# Altium footprint library L1HX5070200000000.PcbLib: 1 footprints
Each footprint in its own frame and in the unit in brackets; x right, y up, seen from the top. Pads: shape width x height; smd on the part's side, far side on the other; paste and mask are expansions set on the pad; w line width, h text height; cw(c..) or ccw(c..) is an arc to the next point about the centre after c.
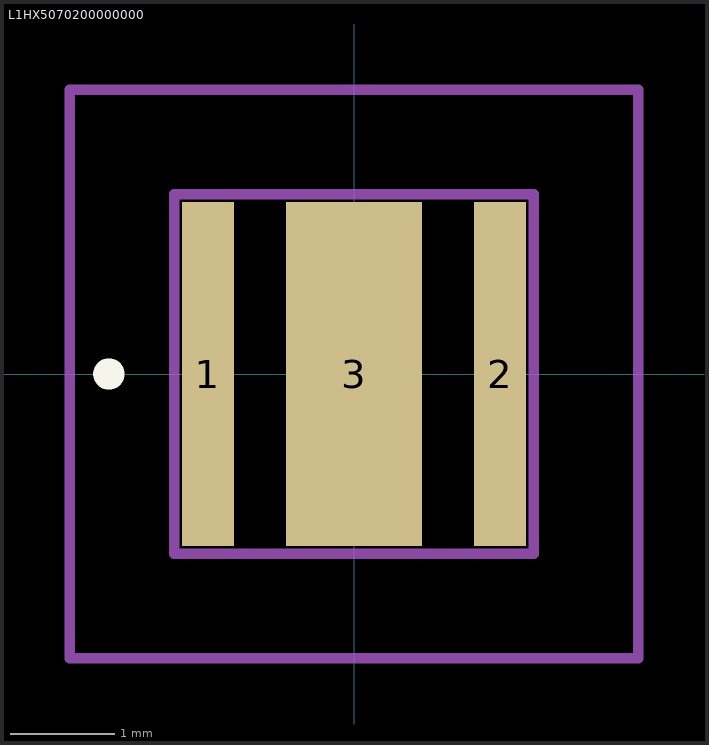
[diagram p0: the footprint, top view; thin cyan lines are the x and y axes]

## L1HX5070200000000 [mm]
pads (3):
  rect 0.5x3.3 smd: 1(-1.4,0) 2(1.4,0)
  rect 1.3x3.3 smd: 3(0,0)
Top Overlay:
  lines w0.2: -2.4,0 -2.4,0 ; -2.4,0 ccw(c-2.35,0) -2.3,0 ; -2.4,0 cw(c-2.35,0) -2.3,0 ; -2.4,0 -2.4,0 ; -2.4,0 ccw(c-2.35,0) -2.3,0 ; -2.3,0 -2.3,0
Mechanical 15:
  lines w0.1: -1.725,-1.725 1.725,-1.725 1.725,1.725 -1.725,1.725 -1.725,-1.725
Mechanical 20:
  lines w0.1: -2.725,-2.725 2.725,-2.725 2.725,2.725 -2.725,2.725 -2.725,-2.725